# EAGLE library part MC34063A* (library Parts)
DC/DCスイッチングレギュレータ ■生産中止品 ■スイッチ電流: 1.5A (MAX) ■発振周波数: 100kHz ■過電流検出回路内蔵 ■電源電圧: 3V~40V ■出力電圧 :1.25V~40V ■動作温度 : 0°C～70°C
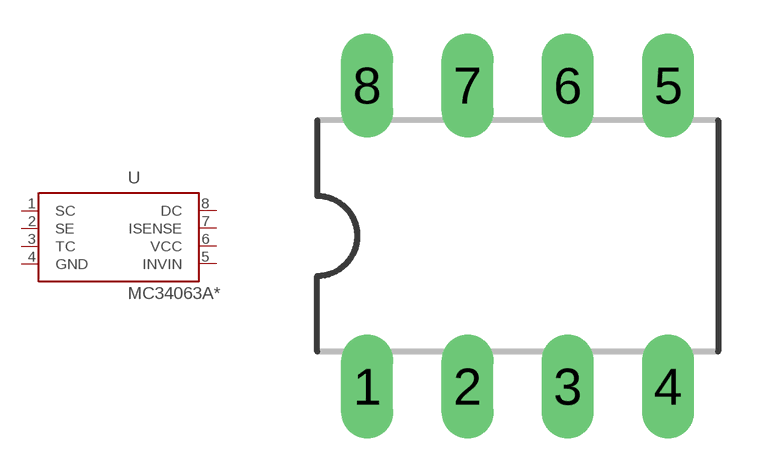
[diagram p1: symbol with the pads of DIL08; footprint DIL08]

Designator prefix U

## MC34063AP1  [DIL08]
1  SC  pas
2  SE  pas
3  TC  pas
4  GND  pas
5  INVIN  pas
6  VCC  pas
7  ISENSE  pas
8  DC  pas

## Footprint DIL08 (pad centres in mm)
Dual In Line Package
drill 0.813 long: 1 -3.81,-3.81; 2 -1.27,-3.81; 3 1.27,-3.81; 4 3.81,-3.81; 5 3.81,3.81; 6 1.27,3.81; 7 -1.27,3.81; 8 -3.81,3.81